# Altium footprint library HTSW10209GS.PcbLib: 1 footprints
Each footprint in its own frame and in the unit in brackets; x right, y up, seen from the top. Pads: shape width x height; smd on the part's side, far side on the other; paste and mask are expansions set on the pad; w line width, h text height; cw(c..) or ccw(c..) is an arc to the next point about the centre after c.
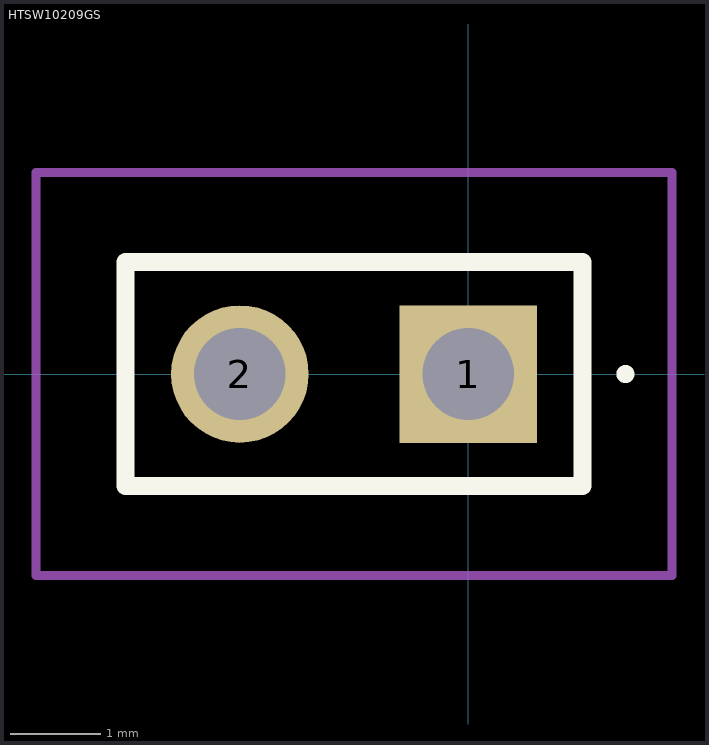
[diagram p0: the footprint, top view; thin cyan lines are the x and y axes]

## HTSW10209GS [mm]
pads (2):
  rect 1.53x1.53 hole 1.02: 1(0,0)
  round 1.53 hole 1.02: 2(-2.54,0)
Top Overlay:
  lines w0.1: 1.7,0 cw(c1.75,0) 1.8,0 ; 1.7,0 1.7,0 ; 1.7,0 ccw(c1.75,0) 1.8,0 ; 1.8,0 1.8,0
  lines w0.2: -3.81,-1.244 -3.81,1.245 1.27,1.245 1.27,-1.244 -3.81,-1.244
Mechanical 15:
  lines w0.1: -3.81,-1.244 -3.81,1.245 1.27,1.245 1.27,-1.244 -3.81,-1.244
Mechanical 20:
  lines w0.1: -4.81,-2.244 -4.81,2.245 2.27,2.245 2.27,-2.244 -4.81,-2.244